# Altium schematic symbol library Schlib1.SchLib: 11 symbols
Pins are listed as number, name and electrical type; pins without a type are passive.

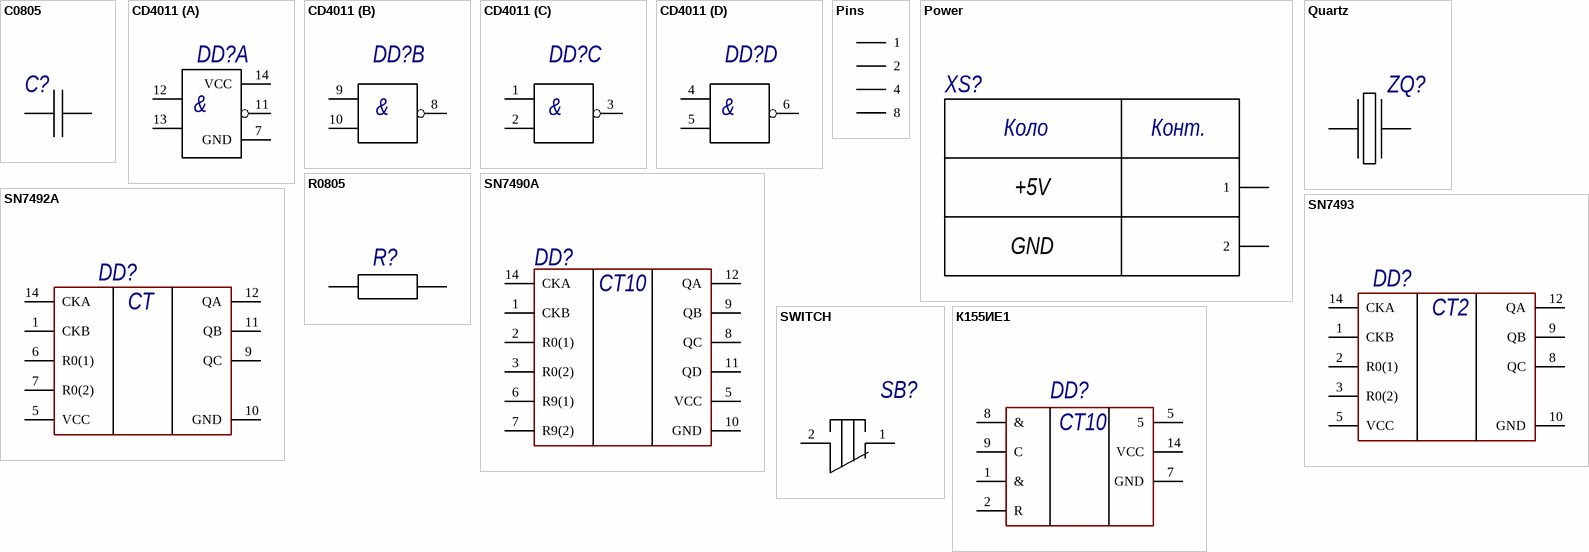
[diagram p0: symbols C0805 to К155ИЕ1]

## C0805
designator C?, comment C-0805 16 В 0,033 мкФ 5% X5R Jiayang  (value not drawn)
Voltage: 16 В; Package: C-0805; Value: 0,033 мкФ; Tolerance: 5%; Manufacturer: Jiayang; Temp_Coef: X5R
footprint C0805 (Chip Capacitor, 2-Leads, Body 2,10x1,30mm, IPC Medium Density)
pins: 1, 2

## CD4011
designator DD?, comment CD4011 Texas Instruments  (value not drawn)
Name: CD4011; Manufacturer: Texas Instruments; Parameter 1: *; Parameter 2: *
footprint CD4011 (SOIC, 14-Leads, Body 8,62x3,90mm, Pitch 1,27mm, IPC Medium Density)
part A pins: 7 GND, 11, 12, 13, 14 VCC
part B pins: 8, 9, 10
part C pins: 1, 2, 3
part D pins: 4, 5, 6
part A text: &
part B text: &
part C text: &
part D text: &

## Pins
designator XS?  (value not drawn)
footprint Pins
pins: 1, 2, 3 4, 4 8

## Power
designator XS?  (value not drawn)
footprint Power
pins: 1, 2
text: Коло; Конт.; +5V; GND

## Quartz
designator ZQ?, comment SIT1579AC-J3-33E-0001.000000 SiTime  (value not drawn)
Value: 1kHz; Voltage: 3.3V; Manufacturer: SiTime; Name: SIT1579AC-J3-33E-0001.000000
footprint Quartz
pins: 1, 2

## R0805
designator R?, comment R-0805 0,125 Вт 6,8 кОм 5% Vishay  (value not drawn)
Value: 6,8 кОм; Packege: R-0805; Power: 0,125 Вт; Tolerance: 5%; Manufacturer: Vishay
footprint R0805 (Chip Resistor, 2-Leads, Body 2,10x1,30mm, IPC Medium Density)
pins: 1, 2

## SN7490A
designator DD?, comment SN7490A Texas Instruments  (value not drawn)
Name: SN7490A; Manufacturer: Texas Instruments
footprint SN7490A (SOIC, 14-Leads, Body 8,65x3,90mm, Pitch 1,27mm, IPC Medium Density)
pins: 1 CKB, 2 R0(1), 3 R0(2), 5 VCC, 6 R9(1), 7 R9(2), 8 QC, 9 QB, 10 GND, 11 QD, 12 QA, 14 CKA
text: СТ10

## SN7492A
designator DD?, comment SN7492A Texas Instruments  (value not drawn)
Name: SN7492A; Manufacturer: Texas Instruments
footprint SN7492A (SOIC, 14-Leads, Body 8,65x3,90mm, Pitch 1,27mm, IPC Medium Density)
pins: 1 CKB, 5 VCC, 6 R0(1), 7 R0(2), 9 QC, 10 GND, 11 QB, 12 QA, 14 CKA
text: СТ

## SN7493
designator DD?, comment SN7493 Texas Instruments  (value not drawn)
Name: SN7493; Manufacturer: Texas Instruments
footprint SN7493 (SOIC, 14-Leads, Body 8,65x3,90mm, Pitch 1,27mm, IPC Medium Density)
pins: 1 CKB, 2 R0(1), 3 R0(2), 5 VCC, 8 QC, 9 QB, 10 GND, 12 QA, 14 CKA
text: СТ2

## SWITCH
designator SB?, comment TS3611-2.5-180-B KLS  (value not drawn)
Name: TS3611-2.5-180-B; Manufacturer: KLS
footprint SWITCH
pins: 1, 2

## К155ИЕ1
designator DD?, comment K155ИЕ1 Ukraine  (value not drawn)
Name: K155ИЕ1; Manufacturer: Ukraine
footprint К155ИЕ1 (SOP, 14-Leads, Body 19,50x6,60mm, Pitch 2,50mm, IPC Medium Density)
pins: 1 &, 2 R, 5, 7 GND, 8 &, 9 C, 14 VCC
text: CT10